# Altium footprint library trans1.PcbLib: 1 footprints
Each footprint in its own frame and in the unit in brackets; x right, y up, seen from the top. Pads: shape width x height; smd on the part's side, far side on the other; paste and mask are expansions set on the pad; w line width, h text height; cw(c..) or ccw(c..) is an arc to the next point about the centre after c.
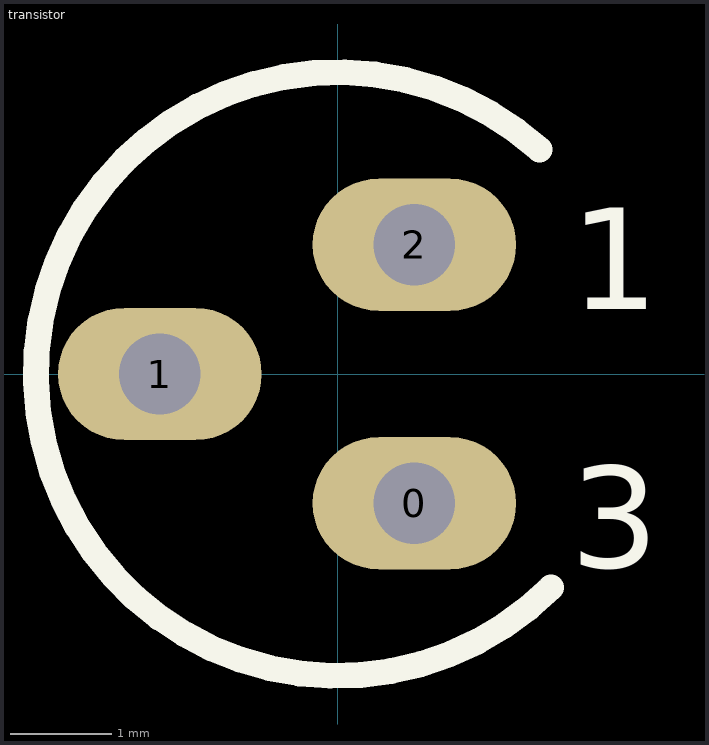
[diagram p0: the footprint, top view; thin cyan lines are the x and y axes]

## transistor [mm]
pads (3):
  oval 2x1.3 hole 0.8: 0(0.754,-1.27) 1(-1.746,0) 2(0.754,1.27)
Top Overlay:
  lines w0.254: 1.983,2.204 ccw(c0,0) 2.096,-2.096
  text "3" at 2.286,-1.905 h1
  text "1" at 2.286,0.635 h1